# Altium footprint library 0462070104.PcbLib: 1 footprints
Each footprint in its own frame and in the unit in brackets; x right, y up, seen from the top. Pads: shape width x height; smd on the part's side, far side on the other; paste and mask are expansions set on the pad; w line width, h text height; cw(c..) or ccw(c..) is an arc to the next point about the centre after c.
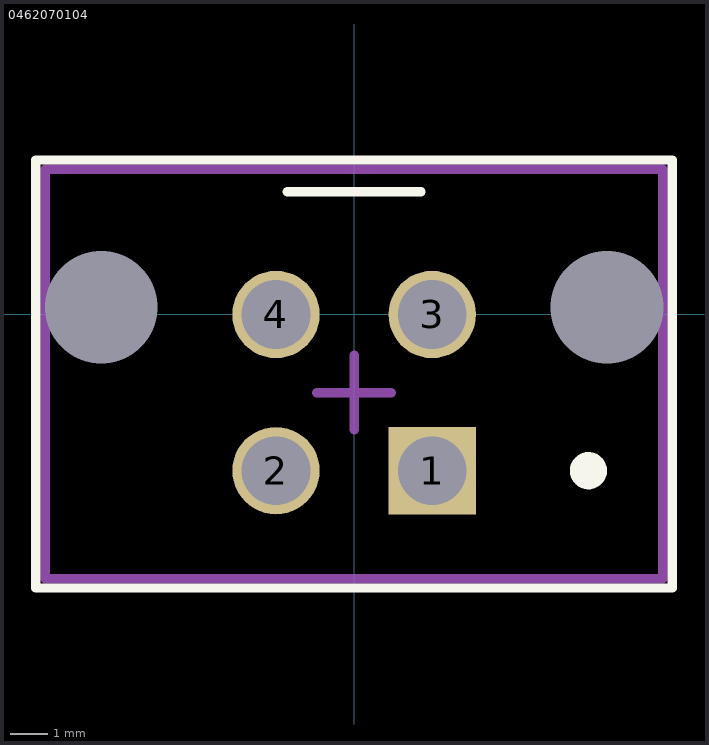
[diagram p0: the footprint, top view; thin cyan lines are the x and y axes]

## 0462070104 [mm]
pads (6):
  rect 2.35x2.35 hole 1.85 mask+0.051: 1(2.1,-4.2)
  round 2.35 hole 1.85 mask+0.051: 2(-2.1,-4.2) 3(2.1,0) 4(-2.1,0)
  round 0 hole 3.03: M1(-6.8,0.191) M1(6.8,0.191)
Top Overlay:
  circle w0.6: c6.3,-4.2 r0.2
  lines w0.254: -8.558,-7.318 -8.558,4.154 ; -8.555,4.154 8.553,4.154 ; -8.554,-7.354 8.554,-7.354 8.554,4.154 ; -1.8,3.3 1.8,3.3
Mechanical 13:
  lines w0.254: -8.3,-7.1 -8.3,3.9 8.3,3.9 8.3,-7.1 -8.3,-7.1
Mechanical 15:
  lines w0.254: -1,-2.1 0,-2.1 ; 0,-3.1 0,-2.1 ; 0,-1.1 0,-2.1 ; 1,-2.1 0,-2.1
3D body "462070104.stp": height 13.6, standoff -4.46, extent -8.339,-7.002 8.316,3.998